# EAGLE library part TUSB2036VF (library TUSB2036)
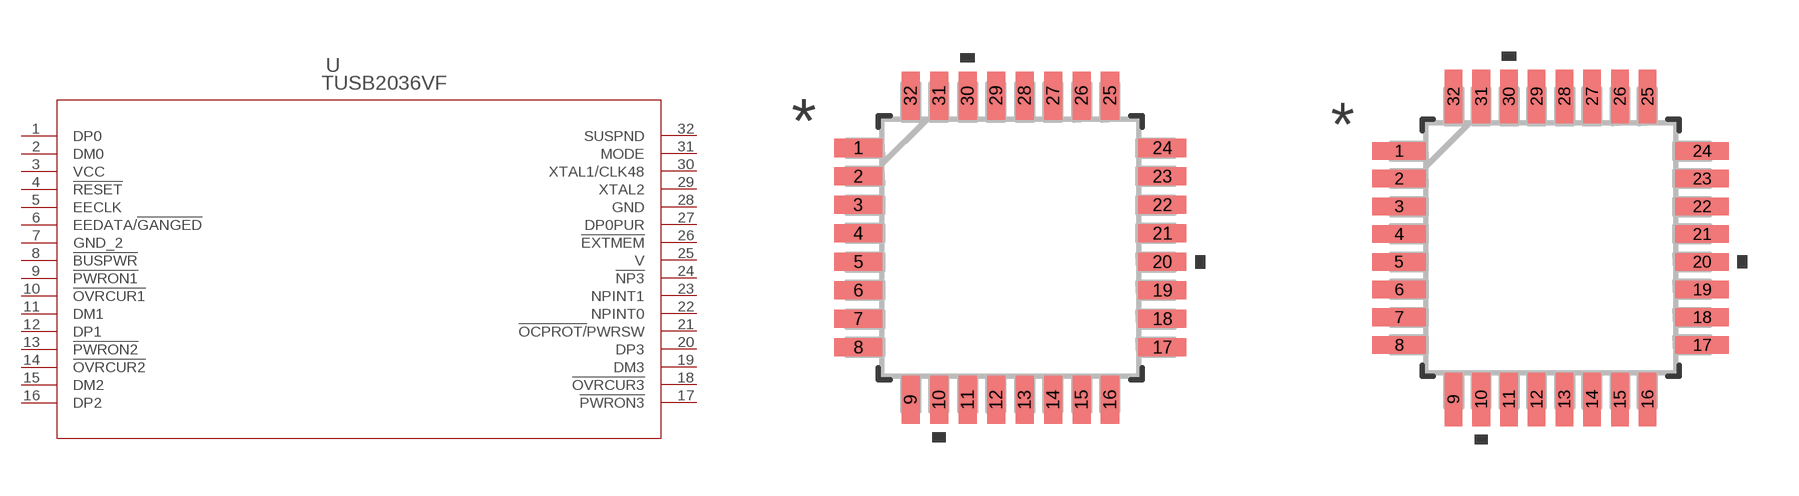
[diagram p0: symbol with the pads of VF32; footprints VF32, VF32-M]

Designator prefix U

## TUSB2036VF (COPYRIGHT: Copyright (C) 2022 Ultra Librarian. All rights reserved.; MANUFACTURER_PART_NUMBER: TUSB2036VF; MFR_NAME: Texas Instruments)  [VF32]
1  DP0
2  DM0
3  VCC  pwr
4  !RESET  in
5  EECLK  out
6  EEDATA/!GANGED
7  GND_2  pwr
8  !BUSPWR  in
9  !PWRON1  out
10  !OVRCUR1  out
11  DM1
12  DP1
13  !PWRON2  out
14  !OVRCUR2  out
15  DM2
16  DP2
17  !PWRON3  out
18  !OVRCUR3  out
19  DM3
20  DP3
21  !OCPROT/!PWRSW  in
22  NPINT0  pas
23  NPINT1  pas
24  !NP3  pas
25  V  pwr
26  !EXTMEM  in
27  DP0PUR  out
28  GND  pwr
29  XTAL2  out
30  XTAL1/CLK48  in
31  MODE  pas
32  SUSPND  out

## TUSB2036VFVF32-M (COPYRIGHT: Copyright (C) 2022 Ultra Librarian. All rights reserved.; MANUFACTURER_PART_NUMBER: TUSB2036VF; MFR_NAME: Texas Instruments)  [VF32-M]
Pads as for VF32

## TUSB2036VFVF32-L (COPYRIGHT: Copyright (C) 2022 Ultra Librarian. All rights reserved.; MANUFACTURER_PART_NUMBER: TUSB2036VF; MFR_NAME: Texas Instruments)  [VF32-L]
Pads as for VF32

## Footprint VF32 (pad centres in mm)
smd 1.353 x 0.507: 1 -4.271,2.8; 2 -4.271,2; 3 -4.271,1.2; 4 -4.271,0.4; 5 -4.271,-0.4; 6 -4.271,-1.2; 7 -4.271,-2; 8 -4.271,-2.8; 17 4.271,-2.8; 18 4.271,-2; 19 4.271,-1.2; 20 4.271,-0.4; 21 4.271,0.4; 22 4.271,1.2; 23 4.271,2; 24 4.271,2.8
smd 0.507 x 1.353: 9 -2.8,-4.271; 10 -2,-4.271; 11 -1.2,-4.271; 12 -0.4,-4.271; 13 0.4,-4.271; 14 1.2,-4.271; 15 2,-4.271; 16 2.8,-4.271; 25 2.8,4.271; 26 2,4.271; 27 1.2,4.271; 28 0.4,4.271; 29 -0.4,4.271; 30 -1.2,4.271; 31 -2,4.271; 32 -2.8,4.271

## Footprint VF32-M (pad centres in mm)
smd 1.553 x 0.507: 1 -4.371,2.8; 2 -4.371,2; 3 -4.371,1.2; 4 -4.371,0.4; 5 -4.371,-0.4; 6 -4.371,-1.2; 7 -4.371,-2; 8 -4.371,-2.8; 17 4.371,-2.8; 18 4.371,-2; 19 4.371,-1.2; 20 4.371,-0.4; 21 4.371,0.4; 22 4.371,1.2; 23 4.371,2; 24 4.371,2.8
smd 0.507 x 1.553: 9 -2.8,-4.371; 10 -2,-4.371; 11 -1.2,-4.371; 12 -0.4,-4.371; 13 0.4,-4.371; 14 1.2,-4.371; 15 2,-4.371; 16 2.8,-4.371; 25 2.8,4.371; 26 2,4.371; 27 1.2,4.371; 28 0.4,4.371; 29 -0.4,4.371; 30 -1.2,4.371; 31 -2,4.371; 32 -2.8,4.371

## Footprint VF32-L (pad centres in mm)
smd 1.153 x 0.457: 1 -4.171,2.8; 2 -4.171,2; 3 -4.171,1.2; 4 -4.171,0.4; 5 -4.171,-0.4; 6 -4.171,-1.2; 7 -4.171,-2; 8 -4.171,-2.8; 17 4.171,-2.8; 18 4.171,-2; 19 4.171,-1.2; 20 4.171,-0.4; 21 4.171,0.4; 22 4.171,1.2; 23 4.171,2; 24 4.171,2.8
smd 0.457 x 1.153: 9 -2.8,-4.171; 10 -2,-4.171; 11 -1.2,-4.171; 12 -0.4,-4.171; 13 0.4,-4.171; 14 1.2,-4.171; 15 2,-4.171; 16 2.8,-4.171; 25 2.8,4.171; 26 2,4.171; 27 1.2,4.171; 28 0.4,4.171; 29 -0.4,4.171; 30 -1.2,4.171; 31 -2,4.171; 32 -2.8,4.171